# EAGLE library part SN74CBT3253C (library zl2avf)
SN74CBT3253C Mux/Demux Symbol shows multiplexer direction
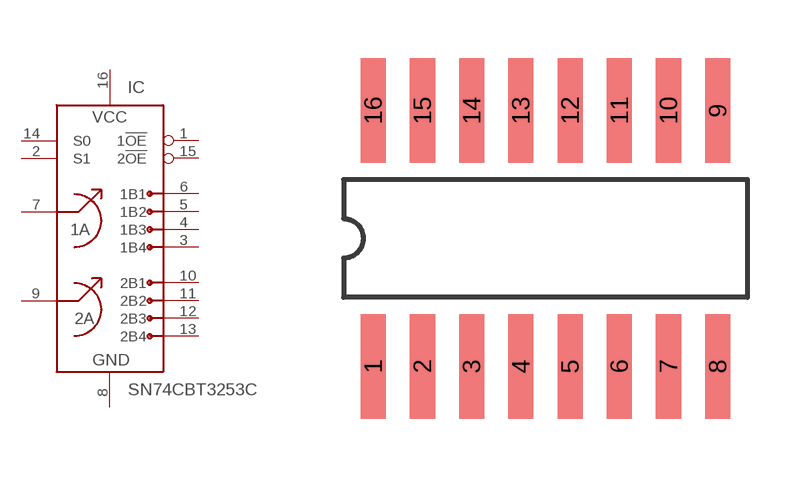
[diagram p1: symbol with the pads of SOIC-16PIN; footprint SOIC-16PIN]

Designator prefix IC

## SN74CBT3253C  [SOIC-16PIN]
1  1!OE  in
2  S1  in
3  1B4  out
4  1B3  out
5  1B2  out
6  1B1  out
7  1A  in
8  GND  pwr
9  2A  in
10  2B1  out
11  2B2  out
12  2B3  out
13  2B4  out
14  S0  in
15  2!OE  in
16  VCC  pwr

## Footprint SOIC-16PIN (pad centres in mm)
SOIC-16pin 1mm added to the length of each pin for hand-soldering
smd 0.65 x 2.7: 1 -3.81,-3.3; 2 -2.54,-3.3; 3 -1.27,-3.3; 4 0,-3.3; 5 1.27,-3.3; 6 2.54,-3.3; 7 3.81,-3.3; 8 5.08,-3.3; 9 5.08,3.3; 10 3.81,3.3; 11 2.54,3.3; 12 1.27,3.3; 13 0,3.3; 14 -1.27,3.3; 15 -2.54,3.3; 16 -3.81,3.3